# Altium schematic symbol library MEJ2.SchLib: 2 symbols
Pins are listed as number, name and electrical type; pins without a type are passive.

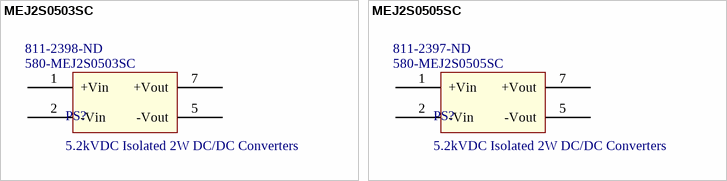
[diagram p0: symbols MEJ2S0503SC to MEJ2S0505SC]

## MEJ2S0503SC
designator PS?, comment 5.2kVDC Isolated 2W DC/DC Converters  Supplier Part Number 1: 580-MEJ2S0503SC  Supplier Part Number 2: 811-2398-ND
5.0v to 3.3v 5.2kVDC Isolated 2W DC/DC Converters; Supplier 1: Mouser; Supplier 2: Digi-Key
footprint MEJ2S (MEJ2 Series Single Output Supply)
pins: 1 +Vin (power), 2 -Vin (power), 5 -Vout (power), 7 +Vout (power)

## MEJ2S0505SC
designator PS?, comment 5.2kVDC Isolated 2W DC/DC Converters  Supplier Part Number 1: 580-MEJ2S0505SC  Supplier Part Number 2: 811-2397-ND
5.0v to 5.0v 5.2kVDC Isolated 2W DC/DC Converters; Supplier 1: Mouser; Supplier 2: Digi-Key
footprint MEJ2S (MEJ2 Series Single Output Supply)
pins: 1 +Vin (power), 2 -Vin (power), 5 -Vout (power), 7 +Vout (power)